# Altium footprint library STLink.PcbLib: 1 footprints
Each footprint in its own frame and in the unit in brackets; x right, y up, seen from the top. Pads: shape width x height; smd on the part's side, far side on the other; paste and mask are expansions set on the pad; w line width, h text height; cw(c..) or ccw(c..) is an arc to the next point about the centre after c.
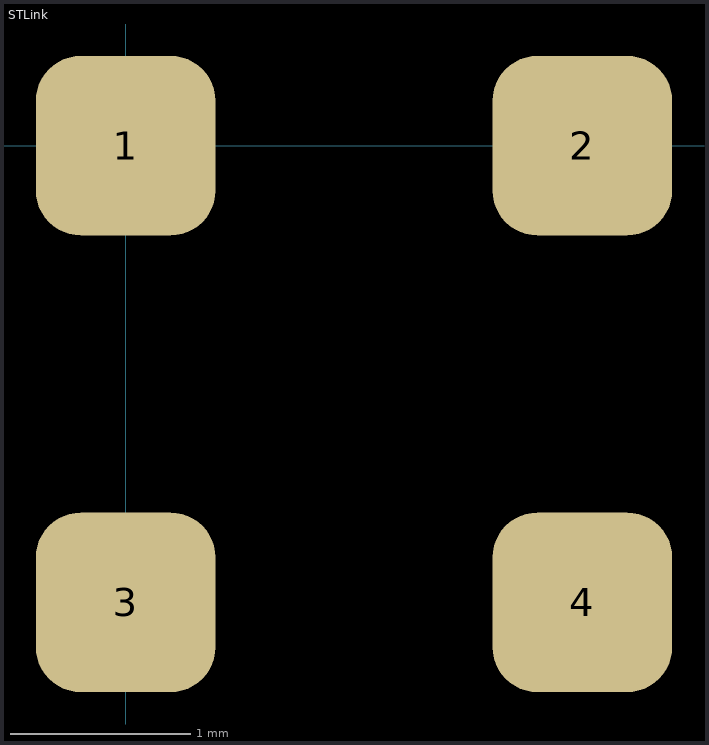
[diagram p0: the footprint, top view; thin cyan lines are the x and y axes]

## STLink [mm] "STLink Programmer Testpoints"
pads (4):
  rrect50% 1x1 smd: 1(0,0) 2(2.54,0) 3(0,-2.54) 4(2.54,-2.54)